# Altium schematic symbol library aiskylab-03Indu.SchLib: 50 symbols
Pins are listed as number, name and electrical type; pins without a type are passive.

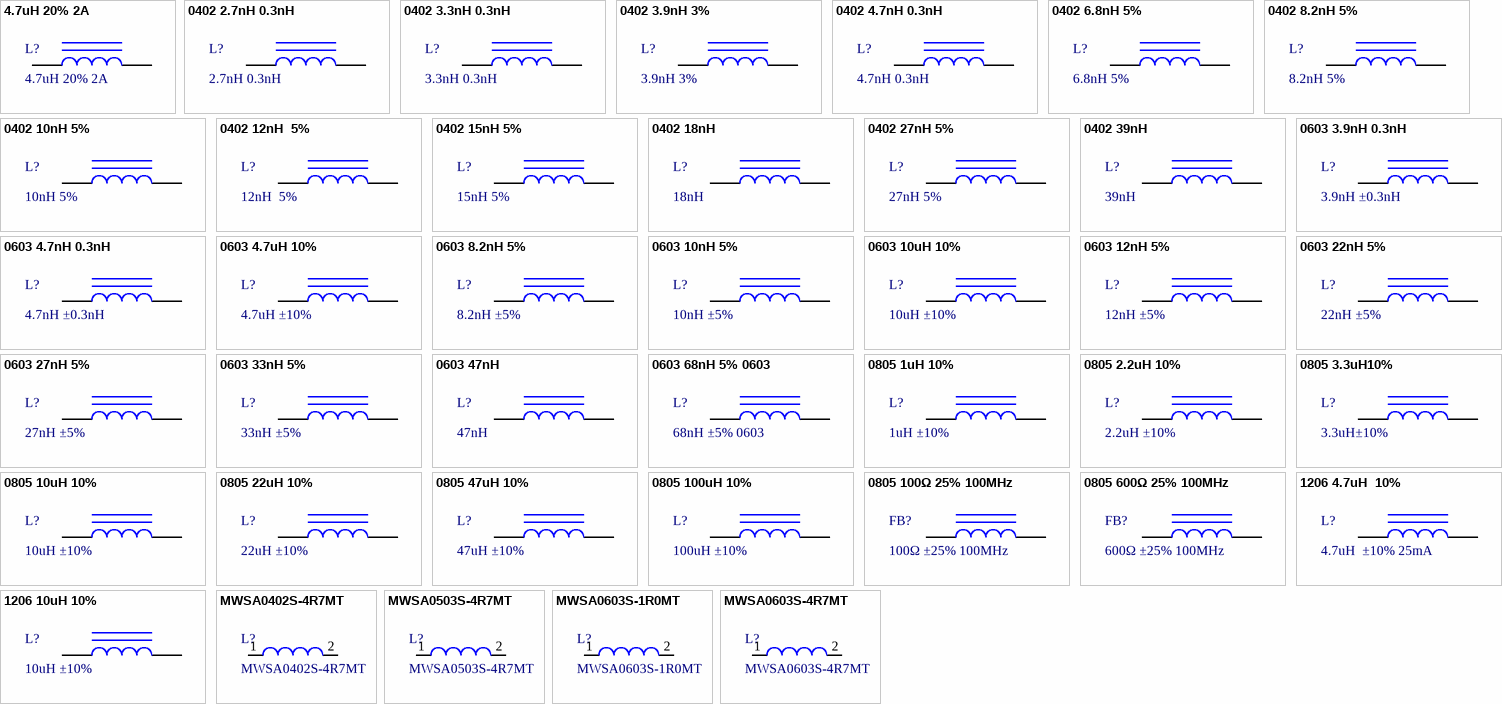
[diagram p0: symbols 4.7uH 20% 2A to MWSA0603S-4R7MT]

## 4.7uH 20% 2A
designator L?
功率电感; ComponentLink1Description: 供应商链接; ComponentLink1URL: https://item.szlcsc.com/207329.html
footprint SWPA4030S
pins: 1, 2

## 0402 2.7nH 0.3nH
designator L?, comment 2.7nH 0.3nH
贴片电感; ComponentLink1Description: 供应商链接; ComponentLink1URL: http://www.szlcsc.com/product/details_27872.html; Package: 0402; Supplier: LC; SuppliersPartNumber: C27123
footprint 0402_L
pins: 1, 2

## 0402 3.3nH 0.3nH
designator L?, comment 3.3nH 0.3nH
贴片电感; ComponentLink1Description: 供应商链接; ComponentLink1URL: http://www.szlcsc.com/product/details_27873.html; Package: 0402; Supplier: LC; SuppliersPartNumber: C27124
footprint 0402_L
pins: 1, 2

## 0402 3.9nH 3%
designator L?, comment 3.9nH 3%
贴片电感; ComponentLink1Description: 供应商链接; ComponentLink1URL: http://www.szlcsc.com/product/details_14690.html; Package: 0402; Supplier: LC; SuppliersPartNumber: C14033
footprint 0402_L
pins: 1, 2

## 0402 4.7nH 0.3nH
designator L?, comment 4.7nH 0.3nH
贴片电感; ComponentLink1Description: 供应商链接; ComponentLink1URL: http://www.szlcsc.com/product/details_14246.html; Package: 0402; Supplier: LC; SuppliersPartNumber: C13595
footprint 0402_L
pins: 1, 2

## 0402 6.8nH 5%
designator L?, comment 6.8nH 5%
贴片电感; ComponentLink1Description: 供应商链接; ComponentLink1URL: http://www.szlcsc.com/product/details_33003.html; Package: 0402; Supplier: LC; SuppliersPartNumber: C32041
footprint 0402_L
pins: 1, 2

## 0402 8.2nH 5%
designator L?, comment 8.2nH 5%
贴片电感; ComponentLink1Description: 供应商链接; ComponentLink1URL: http://www.szlcsc.com/product/details_16890.html; Package: 0402; Supplier: LC; SuppliersPartNumber: C16208
footprint 0402_L
pins: 1, 2

## 0402 10nH 5%
designator L?, comment 10nH 5%
贴片电感; ComponentLink1Description: 供应商链接; ComponentLink1URL: http://www.szlcsc.com/product/details_27896.html; Package: 0402; Supplier: LC; SuppliersPartNumber: C27147
footprint 0402_L
pins: 1, 2

## 0402 12nH  5%
designator L?, comment 12nH  5%
贴片电感; ComponentLink1Description: 供应商链接; ComponentLink1URL: http://www.szlcsc.com/product/details_25303.html; Package: 0402; Supplier: LC; SuppliersPartNumber: C24563
footprint 0402_L
pins: 1, 2

## 0402 15nH 5%
designator L?, comment 15nH 5%
贴片电感; ComponentLink1Description: 供应商链接; ComponentLink1URL: http://www.szlcsc.com/product/details_27892.html; Package: 0402; Supplier: LC; SuppliersPartNumber: C27143
footprint 0402_L
pins: 1, 2

## 0402 18nH
designator L?, comment 18nH
贴片电感; ComponentLink1Description: 供应商链接; ComponentLink1URL: http://www.szlcsc.com/product/details_25302.html; Package: 0402; Supplier: LC; SuppliersPartNumber: C24562
footprint 0402_L
pins: 1, 2

## 0402 27nH 5%
designator L?, comment 27nH 5%
贴片电感; ComponentLink1Description: 供应商链接; ComponentLink1URL: http://www.szlcsc.com/product/details_19533.html; Package: 0402; Supplier: LC; SuppliersPartNumber: C18830
footprint 0402_L
pins: 1, 2

## 0402 39nH
designator L?, comment 39nH
贴片电感; ComponentLink1Description: 供应商链接; ComponentLink1URL: http://www.szlcsc.com/product/details_27187.html; Package: 0402; Supplier: LC; SuppliersPartNumber: C26443
footprint 0402_L
pins: 1, 2

## 0603 3.9nH 0.3nH
designator L?, comment 3.9nH ±0.3nH
贴片电感; ComponentLink1Description: 供应商链接; ComponentLink1URL: http://www.szlcsc.com/product/details_14473.html; Package: 0603; Supplier: LC; SuppliersPartNumber: C13818
footprint 0603_L
pins: 1, 2

## 0603 4.7nH 0.3nH
designator L?, comment 4.7nH ±0.3nH
贴片电感; ComponentLink1Description: 供应商链接; ComponentLink1URL: http://www.szlcsc.com/product/details_1382.html; Package: 0603; Supplier: LC; SuppliersPartNumber: C1030
footprint 0603_L
pins: 1, 2

## 0603 4.7uH 10%
designator L?, comment 4.7uH ±10%
贴片电感; ComponentLink1Description: 供应商链接; ComponentLink1URL: http://www.szlcsc.com/product/details_1386.html; Package: 0603; Supplier: LC; SuppliersPartNumber: C1034
footprint 0603_L
pins: 1, 2

## 0603 8.2nH 5%
designator L?, comment 8.2nH ±5%
贴片电感; ComponentLink1Description: 供应商链接; ComponentLink1URL: http://www.szlcsc.com/product/details_1384.html; Package: 0603; Supplier: LC; SuppliersPartNumber: C1032
footprint 0603_L
pins: 1, 2

## 0603 10nH 5%
designator L?, comment 10nH ±5%
贴片电感; ComponentLink1Description: 供应商链接; ComponentLink1URL: http://www.szlcsc.com/product/details_16347.html; Package: 0603; Supplier: LC; SuppliersPartNumber: C15666
footprint 0603_L
pins: 1, 2

## 0603 10uH 10%
designator L?, comment 10uH ±10%
贴片电感; ComponentLink1Description: 供应商链接; ComponentLink1URL: http://www.szlcsc.com/product/details_1387.html; Package: 0603; Supplier: LC; SuppliersPartNumber: C1035
footprint 0603_L
pins: 1, 2

## 0603 12nH 5%
designator L?, comment 12nH ±5%
贴片电感; ComponentLink1Description: 供应商链接; ComponentLink1URL: http://www.szlcsc.com/product/details_30010.html; Package: 0603; Supplier: LC; SuppliersPartNumber: C29258
footprint 0603_L
pins: 1, 2

## 0603 22nH 5%
designator L?, comment 22nH ±5%
贴片电感; ComponentLink1Description: 供应商链接; ComponentLink1URL: http://www.szlcsc.com/product/details_12684.html; Package: 0603; Supplier: LC; SuppliersPartNumber: C12099
footprint 0603_L
pins: 1, 2

## 0603 27nH 5%
designator L?, comment 27nH ±5%
贴片电感; ComponentLink1Description: 供应商链接; ComponentLink1URL: http://www.szlcsc.com/product/details_12685.html; Package: 0603; Supplier: LC; SuppliersPartNumber: C12100
footprint 0603_L
pins: 1, 2

## 0603 33nH 5%
designator L?, comment 33nH ±5%
贴片电感; ComponentLink1Description: 供应商链接; ComponentLink1URL: http://www.szlcsc.com/product/details_36021.html; Package: 0603; Supplier: LC; SuppliersPartNumber: C35050
footprint 0603_L
pins: 1, 2

## 0603 47nH
designator L?, comment 47nH
贴片电感; ComponentLink1Description: 供应商链接; ComponentLink1URL: http://www.szlcsc.com/product/details_30437.html; Package: 0603; Supplier: LC; SuppliersPartNumber: C29683
footprint 0603_L
pins: 1, 2

## 0603 68nH 5% 0603
designator L?, comment 68nH ±5% 0603
贴片电感; ComponentLink1Description: 供应商链接; ComponentLink1URL: http://www.szlcsc.com/product/details_14064.html; Package: 0603; Supplier: LC; SuppliersPartNumber: C13415
footprint 0603_L
pins: 1, 2

## 0805 1uH 10%
designator L?, comment 1uH ±10%
贴片电感; ComponentLink1Description: 供应商链接; ComponentLink1URL: http://www.szlcsc.com/product/details_1394.html; Package: 0805; Supplier: LC; SuppliersPartNumber: C1042
footprint 0805_L
pins: 1, 2

## 0805 2.2uH 10%
designator L?, comment 2.2uH ±10%
贴片电感; ComponentLink1Description: 供应商链接; ComponentLink1URL: http://www.szlcsc.com/product/details_1395.html; Package: 0805; Supplier: LC; SuppliersPartNumber: C1043
footprint 0805_L
pins: 1, 2

## 0805 3.3uH10%
designator L?, comment 3.3uH±10%
贴片电感; ComponentLink1Description: 供应商链接; ComponentLink1URL: http://www.szlcsc.com/product/details_52738.html; Package: 0805; Supplier: LC; SuppliersPartNumber: C51725
footprint 0805_L
pins: 1, 2

## 0805 10uH 10%
designator L?, comment 10uH ±10%
贴片电感; ComponentLink1Description: 供应商链接; ComponentLink1URL: http://www.szlcsc.com/product/details_1398.html; Package: 0805; Supplier: LC; SuppliersPartNumber: C1046
footprint 0805_L
pins: 1, 2

## 0805 22uH 10%
designator L?, comment 22uH ±10%
贴片电感; ComponentLink1Description: 供应商链接; ComponentLink1URL: http://www.szlcsc.com/product/details_33340.html; Package: 0805; Supplier: LC; SuppliersPartNumber: C32375
footprint 0805_L
pins: 1, 2

## 0805 47uH 10%
designator L?, comment 47uH ±10%
贴片电感; ComponentLink1Description: 供应商链接; ComponentLink1URL: http://www.szlcsc.com/product/details_14964.html; Package: 0805; Supplier: LC; SuppliersPartNumber: C14304
footprint 0805_L
pins: 1, 2

## 0805 100uH 10%
designator L?, comment 100uH ±10%
贴片电感; ComponentLink1Description: 供应商链接; ComponentLink1URL: http://www.szlcsc.com/product/details_69137.html; Package: 0805; Supplier: LC; SuppliersPartNumber: C68035
footprint 0805_L
pins: 1, 2

## 0805 100Ω 25% 100MHz
designator FB?, comment 100Ω ±25% 100MHz
贴片磁珠; ComponentLink1Description: 供应商链接; ComponentLink1URL: http://www.szlcsc.com/product/details_1367.html; Package: 0805; Supplier: LC; SuppliersPartNumber: C1015
footprint 0805_L
pins: 1, 2

## 0805 600Ω 25% 100MHz
designator FB?, comment 600Ω ±25% 100MHz
贴片磁珠; ComponentLink1Description: 供应商链接; ComponentLink1URL: http://www.szlcsc.com/product/details_1369.html; Package: 0805; Supplier: LC; SuppliersPartNumber: C1017
footprint 0805_L
pins: 1, 2

## 1206 4.7uH  10%
designator L?, comment 4.7uH  ±10% 25mA
贴片电感; ComponentLink1Description: 供应商链接; ComponentLink1URL: http://www.szlcsc.com/product/details_1401.html; Package: 1206; Supplier: LC; SuppliersPartNumber: C1049
footprint 1206_L
pins: 1, 2

## 1206 10uH 10%
designator L?, comment 10uH ±10%
贴片电感; ComponentLink1Description: 供应商链接; ComponentLink1URL: http://www.szlcsc.com/product/details_1403.html; Package: 1206; Supplier: LC; SuppliersPartNumber: C1051
footprint 1206_L
pins: 1, 2

## MWSA0402S-4R7MT
designator L?
功率电感; SuplierNumber: C408337; Suplier: JLC; Package: SMD,4.2x4.4x2.0mm; ComponentLink1Description: 购买链接; ComponentLink1URL: https://item.szlcsc.com/397739.html; ComponentLink2Description: Datasheet; ComponentLink2URL: https://atta.szlcsc.com/upload/public/pdf/source/20190729/C408410_8AE9F4BE330F0D24FED3825A68E3306A.pdf?Expires=4070880000&OSSAccessKeyId=LTAIJDIkh7KmGS1H&Signature=IdUNn4QvVvqvXDC5DWboHJpLZ7M%3D&response-content-disposition=attachment%3Bfilename%3DC408410_4.7UH%25C2%25B120%2525_2019-07-29.PDF
footprint MWSA0402S (Inductor, Molded Body; 4.2mm L X 4.4mm W X 2.00mm H, IPC Medium Density)
pins: 1, 2

## MWSA0503S-4R7MT
designator L?
功率电感; SuplierNumber: C408410; Suplier: JLC; Package: SMD,4.2x4.4x2.0mm; ComponentLink1Description: 购买链接; ComponentLink1URL: https://item.szlcsc.com/397762.html; ComponentLink2Description: Datasheet; ComponentLink2URL: https://atta.szlcsc.com/upload/public/pdf/source/20190729/C408410_8AE9F4BE330F0D24FED3825A68E3306A.pdf?Expires=4070880000&OSSAccessKeyId=LTAIJDIkh7KmGS1H&Signature=IdUNn4QvVvqvXDC5DWboHJpLZ7M%3D&response-content-disposition=attachment%3Bfilename%3DC408410_4.7UH%25C2%25B120%2525_2019-07-29.PDF
footprint MWSA0503S (Inductor, Molded Body; 5.49mm L X 5.18mm W X 2.00mm H, IPC Medium Density)
pins: 1, 2

## MWSA0603S-1R0MT
designator L?
功率电感; SuplierNumber: C408426; Suplier: JLC; Value: 1uH±20%; Package: SMD,6.6x7.1x3.0mm; ComponentLink1Description: 购买链接; ComponentLink1URL: https://item.szlcsc.com/397762.html; ComponentLink2Description: Datasheet; ComponentLink2URL: https://atta.szlcsc.com/upload/public/pdf/source/20190729/C408410_8AE9F4BE330F0D24FED3825A68E3306A.pdf?Expires=4070880000&OSSAccessKeyId=LTAIJDIkh7KmGS1H&Signature=IdUNn4QvVvqvXDC5DWboHJpLZ7M%3D&response-content-disposition=attachment%3Bfilename%3DC408410_4.7UH%25C2%25B120%2525_2019-07-29.PDF
footprint MWSA0603S (Inductor, Molded Body; 7mm L X 6.6mm W X 2.8mm H, IPC Medium Density)
pins: 1, 2

## MWSA0603S-4R7MT
designator L?
功率电感; SuplierNumber: C132139; Suplier: JLC; Value: 4.7uH±20%; Package: SMD,6.6x7.1x3.0mm; ComponentLink1Description: 购买链接; ComponentLink1URL: https://item.szlcsc.com/143438.html; ComponentLink2Description: Datasheet; ComponentLink2URL: https://atta.szlcsc.com/upload/public/pdf/source/20170925/C132139_1506321661117990435.pdf
footprint MWSA0603S (Inductor, Molded Body; 7mm L X 6.6mm W X 2.8mm H, IPC Medium Density)
pins: 1, 2

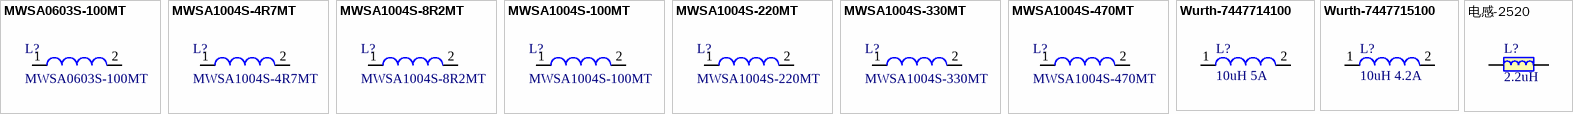
[diagram p1: symbols MWSA0603S-100MT to 电感-2520]

## MWSA0603S-100MT
designator L?
功率电感; SuplierNumber: C132141; Suplier: JLC; Value: 1uH±20%; Package: SMD,6.6x7.1x3.0mm; ComponentLink1Description: 购买链接; ComponentLink1URL: https://item.szlcsc.com/397762.html; ComponentLink2Description: Datasheet; ComponentLink2URL: https://atta.szlcsc.com/upload/public/pdf/source/20190729/C408410_8AE9F4BE330F0D24FED3825A68E3306A.pdf?Expires=4070880000&OSSAccessKeyId=LTAIJDIkh7KmGS1H&Signature=IdUNn4QvVvqvXDC5DWboHJpLZ7M%3D&response-content-disposition=attachment%3Bfilename%3DC408410_4.7UH%25C2%25B120%2525_2019-07-29.PDF
footprint MWSA0603S (Inductor, Molded Body; 7mm L X 6.6mm W X 2.8mm H, IPC Medium Density)
pins: 1, 2

## MWSA1004S-4R7MT
designator L?
功率电感; ManufacturerPartNumber: MWSA1004S-470MT; Value: 4.7uH; Brand: SUNLORD 顺络; Supplier: JLC; SupplierPartNumber: C183899; ComponentLink1Description: Datasheet; ComponentLink1URL: https://atta.szlcsc.com/upload/public/pdf/source/20180125/C167121_15168650534691302955.pdf
footprint MWSA1004S (Inductor, Molded Body; 110mm L X 11.5mm W X 3.80mm H, IPC Medium Density)
pins: 1, 2

## MWSA1004S-8R2MT
designator L?
功率电感; ManufacturerPartNumber: MWSA1004S-470MT; Value: 8.2uH; Brand: SUNLORD 顺络; Supplier: JLC; SupplierPartNumber: C167121; ComponentLink1Description: Datasheet; ComponentLink1URL: https://atta.szlcsc.com/upload/public/pdf/source/20180125/C167121_15168650534691302955.pdf
footprint MWSA1004S (Inductor, Molded Body; 110mm L X 11.5mm W X 3.80mm H, IPC Medium Density)
pins: 1, 2

## MWSA1004S-100MT
designator L?
功率电感; ManufacturerPartNumber: MWSA1004S-470MT; Value: 10uH; Brand: SUNLORD 顺络; Supplier: JLC; SupplierPartNumber: C408491; ComponentLink1Description: Datasheet; ComponentLink1URL: https://atta.szlcsc.com/upload/public/pdf/source/20180125/C167121_15168650534691302955.pdf
footprint MWSA1004S (Inductor, Molded Body; 110mm L X 11.5mm W X 3.80mm H, IPC Medium Density)
pins: 1, 2

## MWSA1004S-220MT
designator L?
功率电感; ManufacturerPartNumber: MWSA1004S-470MT; Value: 2.2uH; Brand: SUNLORD 顺络; Supplier: JLC; SupplierPartNumber: C408489; ComponentLink1Description: Datasheet; ComponentLink1URL: https://atta.szlcsc.com/upload/public/pdf/source/20180125/C167121_15168650534691302955.pdf
footprint MWSA1004S (Inductor, Molded Body; 110mm L X 11.5mm W X 3.80mm H, IPC Medium Density)
pins: 1, 2

## MWSA1004S-330MT
designator L?
功率电感; ManufacturerPartNumber: MWSA1004S-470MT; Value: 33uH; Brand: SUNLORD 顺络; Supplier: JLC; SupplierPartNumber: C143966; ComponentLink1Description: Datasheet; ComponentLink1URL: https://atta.szlcsc.com/upload/public/pdf/source/20180125/C167121_15168650534691302955.pdf
footprint MWSA1004S (Inductor, Molded Body; 110mm L X 11.5mm W X 3.80mm H, IPC Medium Density)
pins: 1, 2

## MWSA1004S-470MT
designator L?
功率电感; Value: 47uH; Brand: SUNLORD 顺络; Supplier: JLC; SupplierPartNumber: C408491; ManufacturerPartNumber: MWSA1004S-470MT; ComponentLink1Description: Datasheet; ComponentLink1URL: https://atta.szlcsc.com/upload/public/pdf/source/20180125/C167121_15168650534691302955.pdf
footprint MWSA1004S (Inductor, Molded Body; 110mm L X 11.5mm W X 3.80mm H, IPC Medium Density)
pins: 1, 2

## Wurth-7447714100
designator L?, comment 10uH 5A
功率电感; PartNumber: 7447714100; Manufacturer: Wuerth Elektronik; Value: 10.0 µH; PackageReference: WE-PD 1050; ComponentLink2Description: Datasheet; ComponentLink1Description: Manufacturer URL; ComponentLink2URL: http://www.we-online.de/katalog/media/pdf/7447714100.pdf; ComponentLink1URL: http://www.we-online.com
footprint WE-PD 1050 (SMD Inductor, 2-Leads, Body 10,0x10,0mm)
pins: 1, 2

## Wurth-7447715100
designator L?, comment 10uH 4.2A
功率电感; Value: 10.0 ÂµH; ComponentLink2Description: Datasheet; PackageDescription: SMD Inductor, 2-Leads, Body 12.0 x 12.0 mm; DatasheetVersion: ver 1, Nov-2008; ComponentLink2URL: https://www.we-online.de/katalog/datasheet/7447715100.pdf; PackageVersion: 2008; PackageReference: WE-PD-LS; ComponentLink1URL: http://www.we-online.com; ComponentLink1Description: Manufacturer Link
footprint SMD-2Leads-12x12mm (SMD Inductor, 2-Leads, Body 12.0 x 12.0 mm)
pins: 1, 2

## 电感-2520
designator L?, comment 2.2uH
磁珠
footprint 2520-L
pins: 1, 2